# Altium footprint library 1-1634622-0.PcbLib: 1 footprints
Each footprint in its own frame and in the unit in brackets; x right, y up, seen from the top. Pads: shape width x height; smd on the part's side, far side on the other; paste and mask are expansions set on the pad; w line width, h text height; cw(c..) or ccw(c..) is an arc to the next point about the centre after c.
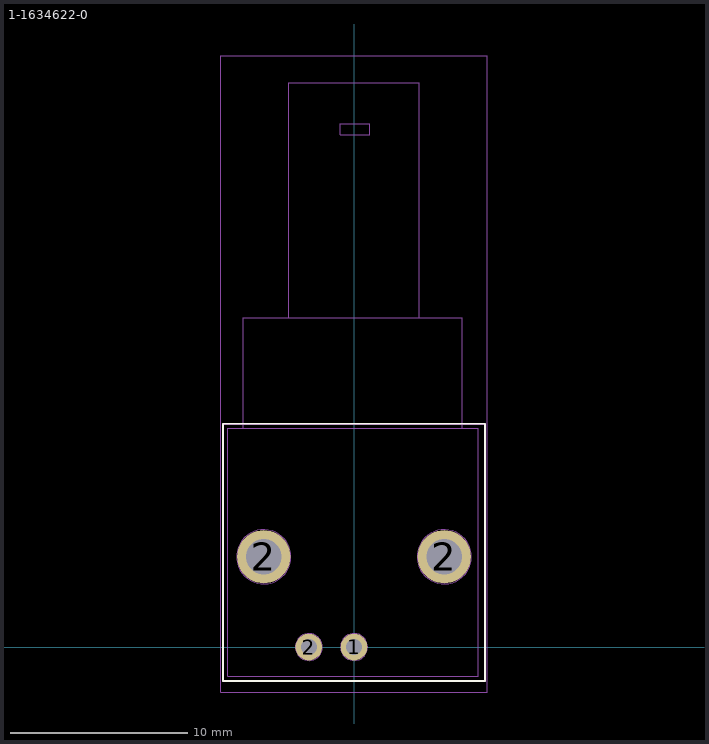
[diagram p0: the footprint, top view; thin cyan lines are the x and y axes]

## 1-1634622-0 [mm]
pads (4):
  round 1.5 hole 0.89: 1(0,0) 2(-2.54,0)
  round 3 hole 2.01: 2(-5.08,5.08) 2(5.08,5.08)
Top Overlay:
  lines w0.1: -7.366,-1.905 -7.366,11.303 -7.366,12.573 7.366,12.573 7.366,11.303 7.366,-1.905 -0.254,-1.905 -7.366,-1.905
Mechanical 3:
  lines w0.12: -7.369,-1.905 7.366,-1.905 7.366,0 7.366,12.56 -7.369,12.56 -7.369,-1.905
Mechanical 5:
  circle w0.025: c5.08,5.08 r1.529
  circle w0.025: c0,0 r0.762
  circle w0.025: c-2.54,0 r0.762
  circle w0.025: c-5.08,5.08 r1.529
  lines w0.025: -6.223,12.319 -6.223,18.542 6.096,18.542 6.096,12.319 ; -3.683,18.542 -3.683,31.75 3.683,31.75 3.683,18.542 ; -7.112,-1.651 -7.112,12.319 6.985,12.319 6.985,-1.651 -7.112,-1.651 ; -0.762,28.829 0.889,28.829 0.889,29.464 -0.762,29.464 -0.762,28.829
Mechanical 7:
  lines w0.05: -7.493,-2.54 7.493,-2.54 7.493,-1.905 7.493,33.274 -7.493,33.274 -7.493,-2.54
Mechanical 9:
  text ".Designator" at 10.541,1.255 h1
3D body "c-1-1337543-0-f-3d.stp": height 15.65, standoff -4.45, extent -7.35,-2.413 7.35,33.087
3D body: height 1, standoff 0, extent -7.493,-2.54 7.493,33.274